# Altium footprint library Footprint-Lib-ABahlmann-MISC.PcbLib: 69 footprints (part 4 of 5)
Each footprint in its own frame and in the unit in brackets; x right, y up, seen from the top. Pads: shape width x height; smd on the part's side, far side on the other; paste and mask are expansions set on the pad; w line width, h text height; cw(c..) or ccw(c..) is an arc to the next point about the centre after c.
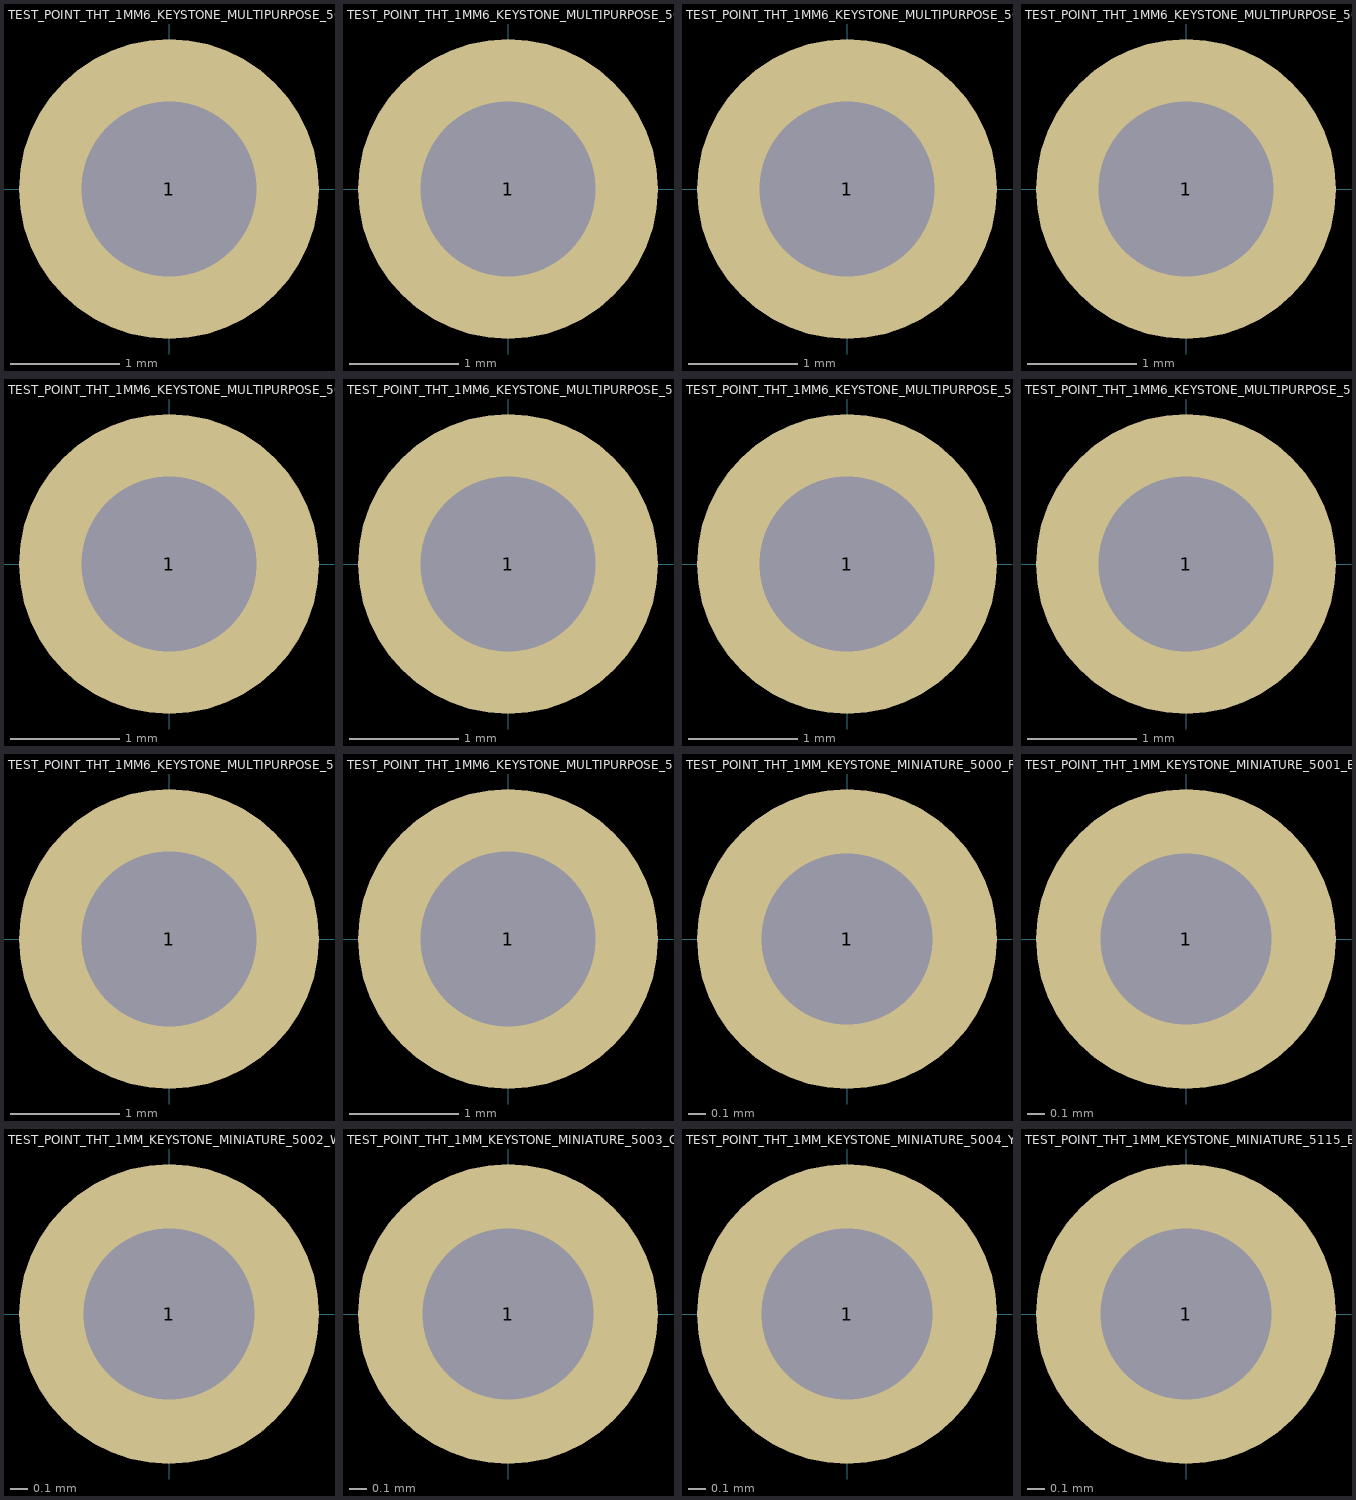
[diagram p3: the footprints below, top view; thin cyan lines are the x and y axes]

## TEST_POINT_THT_1MM6_KEYSTONE_MULTIPURPOSE_5010_RED [mm] "PC Test Point, Multipurpose Phosphor Bronze Silver Plating Through Hole Mounting Type"
pads (1):
  round 2.75 hole 1.6: 1(0,0)
3D body "Keystone 5010.step": height 8.13, standoff -3.16, extent -1.59,-1.578 1.59,1.578

## TEST_POINT_THT_1MM6_KEYSTONE_MULTIPURPOSE_5011_BLACK [mm] "PC Test Point, Multipurpose Phosphor Bronze Silver Plating Through Hole Mounting Type"
pads (1):
  round 2.75 hole 1.6: 1(0,0)
3D body "Keystone 5011.step": height 8.13, standoff -3.16, extent -1.59,-1.578 1.59,1.578

## TEST_POINT_THT_1MM6_KEYSTONE_MULTIPURPOSE_5012_WHITE [mm] "PC Test Point, Multipurpose Phosphor Bronze Silver Plating Through Hole Mounting Type"
pads (1):
  round 2.75 hole 1.6: 1(0,0)
3D body "Keystone 5012.step": height 8.13, standoff -3.16, extent -1.59,-1.578 1.59,1.578

## TEST_POINT_THT_1MM6_KEYSTONE_MULTIPURPOSE_5013_ORANGE [mm] "PC Test Point, Multipurpose Phosphor Bronze Silver Plating Through Hole Mounting Type"
pads (1):
  round 2.75 hole 1.6: 1(0,0)
3D body "Keystone 5013.step": height 8.13, standoff -3.16, extent -1.59,-1.578 1.59,1.578

## TEST_POINT_THT_1MM6_KEYSTONE_MULTIPURPOSE_5014_YELLOW [mm] "PC Test Point, Multipurpose Phosphor Bronze Silver Plating Through Hole Mounting Type"
pads (1):
  round 2.75 hole 1.6: 1(0,0)
3D body "Keystone 5014.step": height 8.13, standoff -3.16, extent -1.59,-1.578 1.59,1.578

## TEST_POINT_THT_1MM6_KEYSTONE_MULTIPURPOSE_5125_BROWN [mm] "PC Test Point, Multipurpose Phosphor Bronze Silver Plating Through Hole Mounting Type"
pads (1):
  round 2.75 hole 1.6: 1(0,0)
3D body "Keystone 5125.step": height 8.13, standoff -3.16, extent -1.59,-1.578 1.59,1.578

## TEST_POINT_THT_1MM6_KEYSTONE_MULTIPURPOSE_5126_GREEN [mm] "PC Test Point, Multipurpose Phosphor Bronze Silver Plating Through Hole Mounting Type"
pads (1):
  round 2.75 hole 1.6: 1(0,0)
3D body "Keystone 5126.step": height 8.13, standoff -3.16, extent -1.59,-1.578 1.59,1.578

## TEST_POINT_THT_1MM6_KEYSTONE_MULTIPURPOSE_5127_BLUE [mm] "PC Test Point, Multipurpose Phosphor Bronze Silver Plating Through Hole Mounting Type"
pads (1):
  round 2.75 hole 1.6: 1(0,0)
3D body "Keystone 5127.step": height 8.13, standoff -3.16, extent -1.59,-1.578 1.59,1.578

## TEST_POINT_THT_1MM6_KEYSTONE_MULTIPURPOSE_5128_GREY [mm] "PC Test Point, Multipurpose Phosphor Bronze Silver Plating Through Hole Mounting Type"
pads (1):
  round 2.75 hole 1.6: 1(0,0)
3D body "Keystone 5128.step": height 8.13, standoff -3.16, extent -1.59,-1.578 1.59,1.578

## TEST_POINT_THT_1MM6_KEYSTONE_MULTIPURPOSE_5129_PURPLE [mm] "PC Test Point, Multipurpose Phosphor Bronze Silver Plating Through Hole Mounting Type"
pads (1):
  round 2.75 hole 1.6: 1(0,0)
3D body "Keystone 5129.step": height 8.13, standoff -3.16, extent -1.59,-1.578 1.59,1.578

## TEST_POINT_THT_1MM_KEYSTONE_MINIATURE_5000_RED [mm] "PC Test Point, Miniature Phosphor Bronze Silver Plating Through Hole Mounting Type"
pads (1):
  round 1.75 hole 1: 1(0,0)
3D body "Keystone 5000.step": height 4.58, standoff -3.04, extent -1.07,-1.062 1.07,1.062

## TEST_POINT_THT_1MM_KEYSTONE_MINIATURE_5001_BLACK [mm] "PC Test Point, Miniature Phosphor Bronze Silver Plating Through Hole Mounting Type"
pads (1):
  round 1.75 hole 1: 1(0,0)
3D body "Keystone 5001.step": height 4.58, standoff -3.04, extent -1.07,-1.062 1.07,1.062

## TEST_POINT_THT_1MM_KEYSTONE_MINIATURE_5002_WHITE [mm] "PC Test Point, Miniature Phosphor Bronze Silver Plating Through Hole Mounting Type"
pads (1):
  round 1.75 hole 1: 1(0,0)
3D body "Keystone 5002.step": height 4.58, standoff -3.04, extent -1.07,-1.062 1.07,1.062

## TEST_POINT_THT_1MM_KEYSTONE_MINIATURE_5003_ORANGE [mm] "PC Test Point, Miniature Phosphor Bronze Silver Plating Through Hole Mounting Type"
pads (1):
  round 1.75 hole 1: 1(0,0)
3D body "Keystone 5003.step": height 4.58, standoff -3.04, extent -1.07,-1.062 1.07,1.062

## TEST_POINT_THT_1MM_KEYSTONE_MINIATURE_5004_YELLOW [mm] "PC Test Point, Miniature Phosphor Bronze Silver Plating Through Hole Mounting Type"
pads (1):
  round 1.75 hole 1: 1(0,0)
3D body "Keystone 5004.step": height 4.58, standoff -3.04, extent -1.07,-1.062 1.07,1.062

## TEST_POINT_THT_1MM_KEYSTONE_MINIATURE_5115_BROWN [mm] "PC Test Point, Miniature Phosphor Bronze Silver Plating Through Hole Mounting Type"
pads (1):
  round 1.75 hole 1: 1(0,0)
3D body "Keystone 5115.step": height 4.58, standoff -3.04, extent -1.07,-1.062 1.07,1.062